# Altium schematic symbol library Schlib1.SchLib: 13 symbols
Pins are listed as number, name and electrical type; pins without a type are passive.

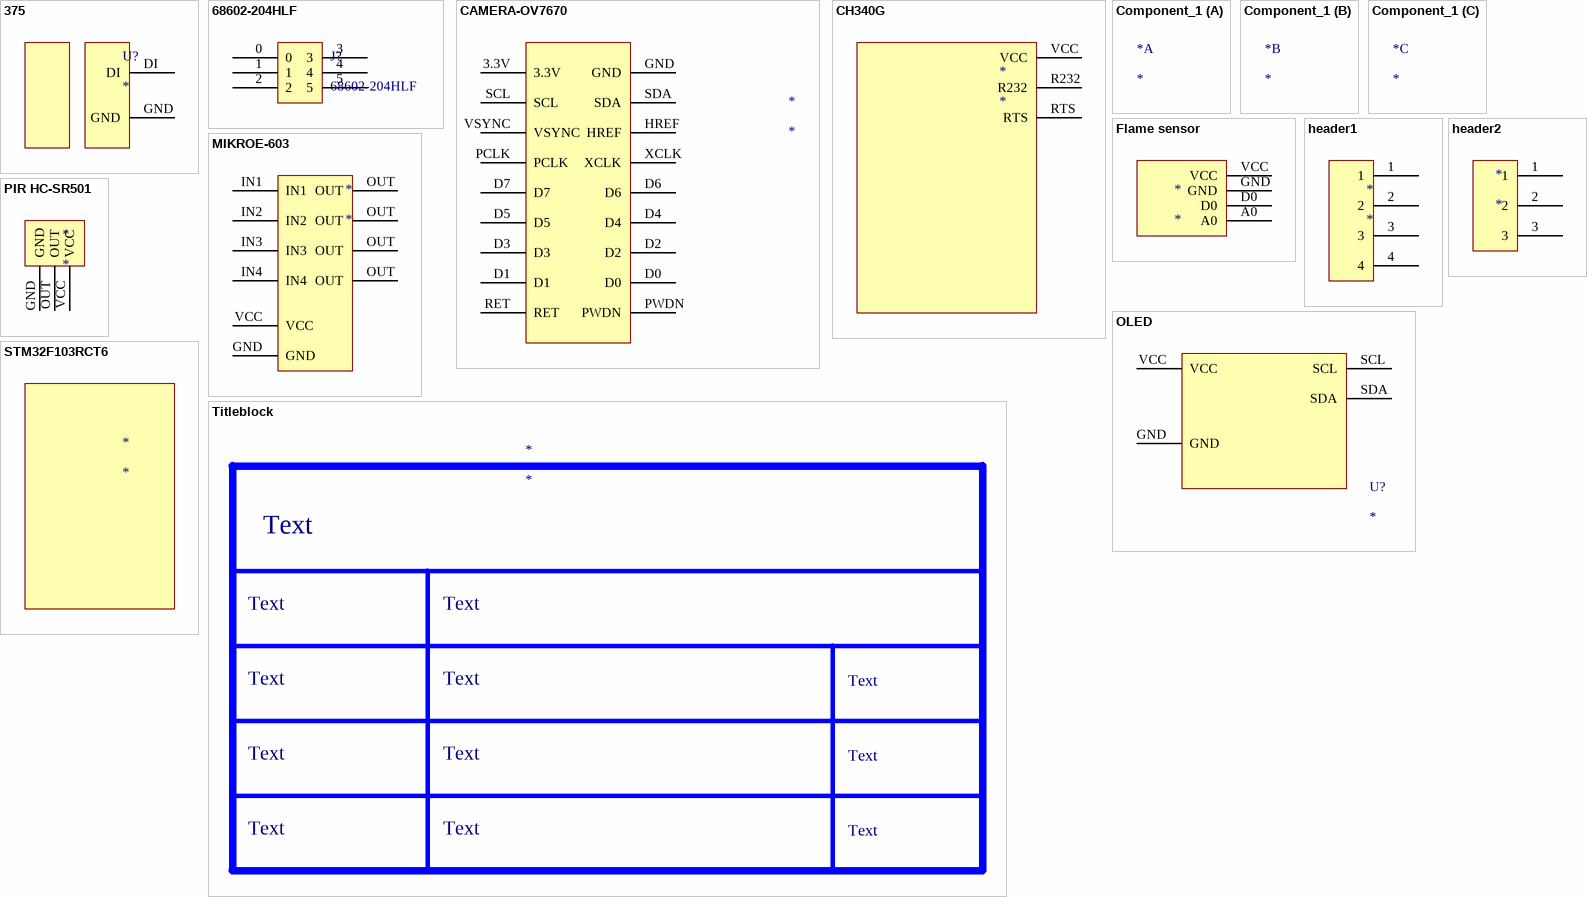
[diagram p0: symbols 375 to Titleblock]

## 375
designator U?
Magnetic Contact Switch (Door Sensor) Rohs Compliant: Yes |Adafruit 375; Manufacturer: Adafruit Industries; Manufacturer Part Number: 375; Supplier: Digikey; Supplier Part Number: 1528-1907-ND; RoHS: No; Stock: 162; Pricing: 1=3,95 (USD); ComponentLink1URL: https://media.digikey.com/pdf/Data%20Sheets/Adafruit%20PDFs/375_Web.pdf?src-supplier=Digikey; ComponentLink1Description: https://media.digikey.com/pdf/Data%20Sheets/Adafruit%20PDFs/375_Web.pdf?src-supplier=Digikey
pins: DI, GND

## 68602-204HLF
designator J?
CONN HEADER VERT 4POS 2.54MM; Manufacturer: Amphenol ICC / FCI; Supplier: Newark; Supplier Part Number: 28AH8858; Manufacturer Part Number: 68602-204HLF; RoHS: No; Category: Connectors; Pricing: 1=0,245, 10=0,243, 25=0,241, 50=0,238, 100=0,236, 250=0,234 (USD); ComponentLink1URL: https://cdn.amphenol-icc.com/media/wysiwyg/files/drawing/67996.pdf?src-supplier=Digikey; ComponentLink1Description: https://cdn.amphenol-icc.com/media/wysiwyg/files/drawing/67996.pdf?src-supplier=Digikey; ComponentLink2URL: https://cdn.amphenol-icc.com/media/wysiwyg/files/drawing/67996.pdf?src-supplier=Avnet; ComponentLink2Description: https://cdn.amphenol-icc.com/media/wysiwyg/files/drawing/67996.pdf?src-supplier=Avnet; ComponentLink3URL: https://cdn.amphenol-icc.com/media/wysiwyg/files/drawing/67996.pdf?src-supplier=Mouser; ComponentLink3Description: https://cdn.amphenol-icc.com/media/wysiwyg/files/drawing/67996.pdf?src-supplier=Mouser; ComponentLink4URL: https://datasheet.octopart.com/68602-204HLF-Amphenol-Communications-Solutions-datasheet-36854132.pdf?src-supplier=Newark; ComponentLink4Description: https://datasheet.octopart.com/68602-204HLF-Amphenol-Communications-Solutions-datasheet-36854132.pdf?src-supplier=Newark; ComponentLink5URL: https://cdn.amphenol-icc.com/media/wysiwyg/files/drawing/67996.pdf?src-supplier=Allied+Electronics; ComponentLink5Description: https://cdn.amphenol-icc.com/media/wysiwyg/files/drawing/67996.pdf?src-supplier=Allied+Electronics; ComponentLink6URL: https://cdn.amphenol-icc.com/media/wysiwyg/files/drawing/67996.pdf?src-supplier=Heilind+Electronics; ComponentLink6Description: https://cdn.amphenol-icc.com/media/wysiwyg/files/drawing/67996.pdf?src-supplier=Heilind+Electronics
pins: 0, 1, 2, 3, 4, 5

## CAMERA-OV7670
designator *
CAMERA-OV7670; Manufacturer: Olimex; Supplier: Digikey; Supplier Part Number: 1188-CAMERA-OV7670-ND; Manufacturer Part Number: CAMERA-OV7670; RoHS: No; Stock: 23; Pricing: 1=5,17 (USD)
pins: 3.3V, D0, D1, D2, D3, D4, D5, D6, D7, GND, HREF, PCLK, PWDN, RET, SCL, SDA, VSYNC, XCLK

## CH340G
designator *
pins: R232, RTS, VCC

## Component_1
designator *

## Flame sensor
designator *
flame sensor
pins: A0, D0, GND, VCC

## header1
designator *
pins: 1, 2, 3, 4

## header2
designator *
pins: 1, 2, 3

## MIKROE-603
designator *
ULN2804 Darlington BJT Extension Board; Manufacturer: mikroElektronika; Manufacturer Part Number: MIKROE-603; Supplier: Digikey; Supplier Part Number: 1471-1247-ND; RoHS: Yes; Category: Embedded Processors and Controllers; Stock: 19; Pricing: 1=36 (USD); ComponentLink1URL: https://datasheet.ciiva.com/4431/relay4-manual-v100-12328-4431692.pdf?src-supplier=Mouser; ComponentLink1Description: https://datasheet.ciiva.com/4431/relay4-manual-v100-12328-4431692.pdf?src-supplier=Mouser; ComponentLink2URL: https://datasheet.ciiva.com/46642/70377666-46642775.pdf?src-supplier=Allied+Electronics; ComponentLink2Description: https://datasheet.ciiva.com/46642/70377666-46642775.pdf?src-supplier=Allied+Electronics; ComponentLink3URL: https://datasheet.ciiva.com/29357/relay4-manual-v100-29357142.pdf?src-supplier=Digikey; ComponentLink3Description: https://datasheet.ciiva.com/29357/relay4-manual-v100-29357142.pdf?src-supplier=Digikey
pins: GND, IN1, IN2, IN3, IN4, OUT, OUT, OUT, OUT, VCC

## OLED
designator U?
MDOB128064V2V-YI
pins: GND, SCL, SDA, VCC

## PIR HC-SR501
designator *
PIR HC-SR501
pins: GND, OUT, VCC

## STM32F103RCT6
designator *

## Titleblock
designator *
text: Text